# EAGLE library part USB-BERG-PN61729-S (library EFM8Midi)
BERG USB connector
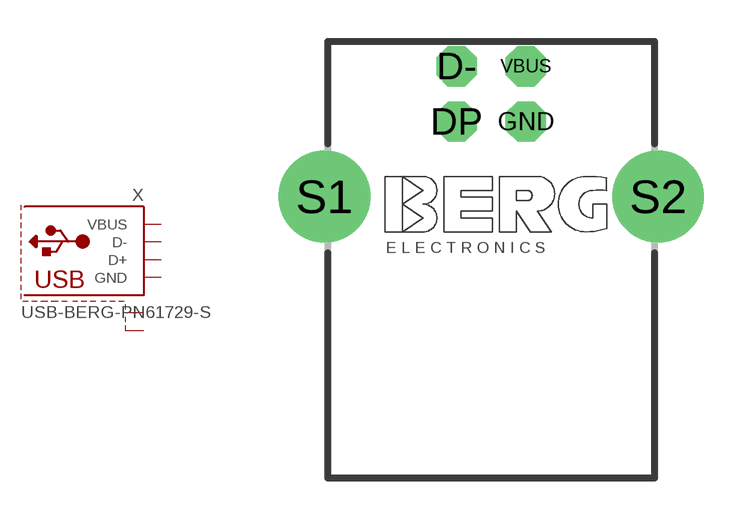
[diagram p4: symbol with the pads of USB-BERG-S; footprint USB-BERG-S]

Designator prefix X

## USB-BERG-PN61729-S  [USB-BERG-S]
D-  D-  pas
DP  D+  pas
GND  GND  pas
S1  S1  pas
S2  S2  pas
VBUS  VBUS  pas

## Footprint USB-BERG-S (pad centres in mm)
USB connector with shield
drill 0.95 octagon: D- -1.25,4.71; DP -1.25,2.71; GND 1.25,2.71; VBUS 1.25,4.71
drill 2.3 pad 2.9: S1 -6.02,0; S2 6.02,0